# Altium schematic symbol library 691382040004.SchLib: 1 symbol
Pins are listed as number, name and electrical type; pins without a type are passive.

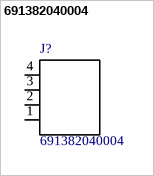
[diagram p0: symbol 691382040004]

## 691382040004
designator J?
WR-TBL 2.5mm RA terminal block header 4P; MF: Wurth Electronics; Package: None; SnapEDA_Link: https://www.snapeda.com/parts/691382040004/Wurth%20Electronics%20Inc/view-part/1195361/?ref=snap; MP: 691382040004; Availability: Unavailable; Price: None; Value: *
footprint *691382040004
pins: 1 4, 2 3, 3 2, 4 1